# EAGLE library part 54602-908LF (library 54602-908LF)
FCI,54602-908LF,Connector,Modular Amphenol FCI Cat3 RJ45 Connector Socket, Right Angle, Through Hole 54602 <https://componentsearchengine.com/Images/1/54602-908LF.jpg> Source: Datasheet <http://www.mouser.com/ds/2/18/c-bmj-0102-1003783.pdf>
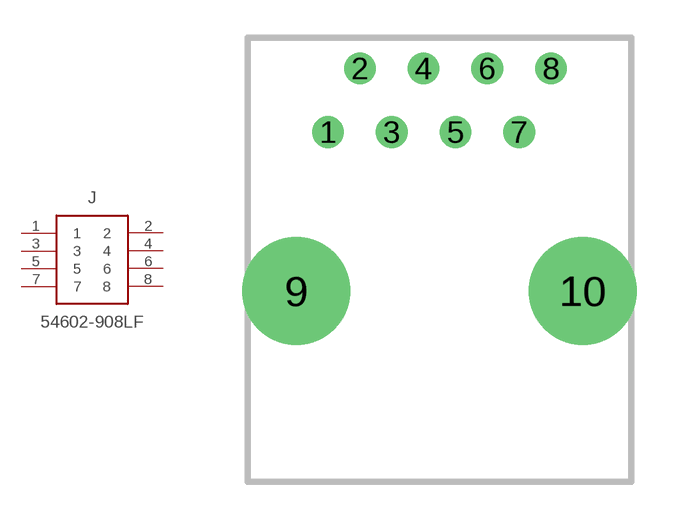
[diagram p0: symbol with the pads of 54602-908LF_1; footprint 54602-908LF_1]

Designator prefix J

## 54602-908LF (Description: FCI,54602-908LF,Connector,Modular Amphenol FCI Cat3 RJ45 Connector Socket, Right Angle, Through Hole 54602; Height: mm; Manufacturer_Name: AMPHENOL FCI; Manufacturer_Part_Number: 54602-908LF; RS_Part_Number: 8633071; Supplier_Name: RS)  [54602-908LF_1]
1  1  pas
2  2  pas
3  3  pas
4  4  pas
5  5  pas
6  6  pas
7  7  pas
8  8  pas

## Footprint 54602-908LF_1 (pad centres in mm)
54602-908LF
drill 0.76 pad 1.26: 1 -4.445,13.97; 2 -3.175,16.51; 3 -1.905,13.97; 4 -0.635,16.51; 5 0.635,13.97; 6 1.905,16.51; 7 3.175,13.97; 8 4.445,16.51
drill 3.3 pad 3.3: 9 -5.715,7.62; 10 5.715,7.62